# Altium schematic symbol library HanRun.SchLib: 2 symbols
Pins are listed as number, name and electrical type; pins without a type are passive.

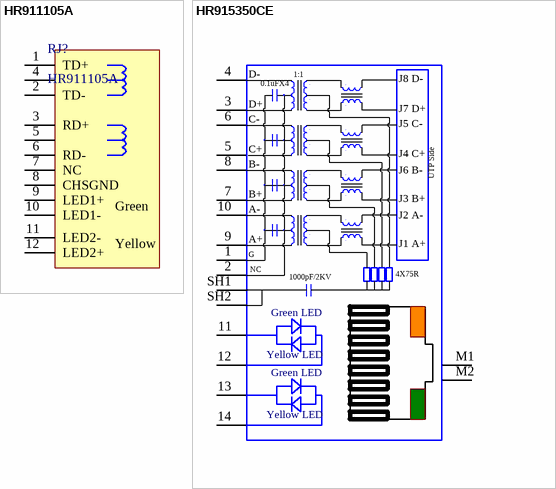
[diagram p0: symbols HR911105A to HR915350CE]

## HR911105A
designator RJ?
带灯以太网接口; Revised By: Z_xiao; Datasheet: http://www.hanrun.com/public/upload/down/2020/09-11/cc11be56d66bb63d5f1eeb85492439c0.pdf
footprint HR911105A (网线接口)
pins: 1 TD+, 2 TD-, 3 RD+, 4, 5, 6 RD-, 7 NC, 8 CHSGND, 9 LED1+, 10 LED1-, 11 LED2-, 12 LED2+
text: Green; Yellow

## HR915350CE
designator HR915350CE
1x1Port Tab-UP RJ45 Connector / with Integrated Magnetics and LED / for 10/100/1000Base-T Applications; Revised By: Z_xiao; ComponentLink1Description: Datasheet; ComponentLink1URL: http://www.hanrun.com/index.php
footprint HR915350CE
pins: 1 GND, 2 NC, 3 D+, 4 D-, 5 C+, 6 C-, 7 B+, 8 B-, 9 A+, 10 A-, 11, 12, 13, 14, M1, M2, SH1, SH2
text: 1:1; 0.1uFX4; J8 D-; J7 D+; J5 C-; J4 C+; J6 B-; UTP Side; J3 B+; J2 A-; J1 A+; G; 1000pF/2KV; 4X75R; Green LED; Yellow LED